# Altium footprint library PcbLib1.PcbLib: 41 footprints (part 2 of 3)
Each footprint in its own frame and in the unit in brackets; x right, y up, seen from the top. Pads: shape width x height; smd on the part's side, far side on the other; paste and mask are expansions set on the pad; w line width, h text height; cw(c..) or ccw(c..) is an arc to the next point about the centre after c.
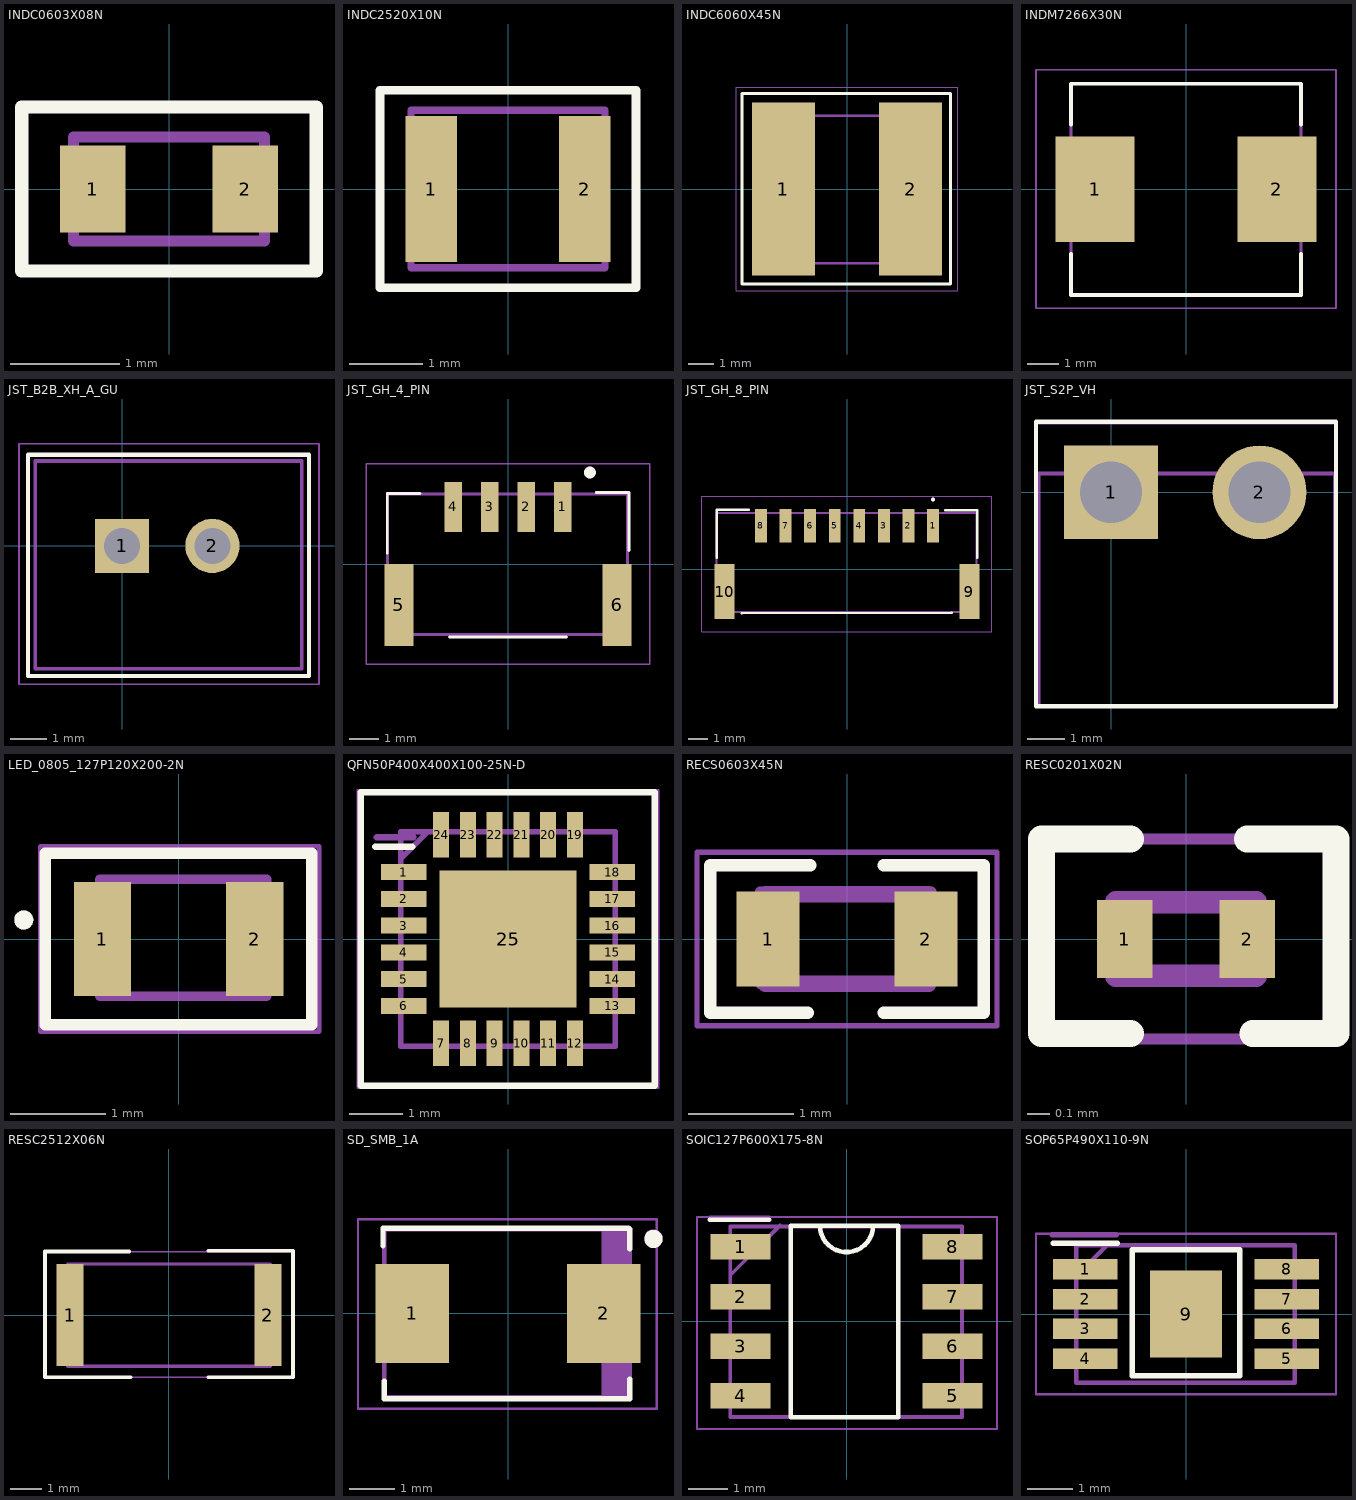
[diagram p1: the footprints below, top view; thin cyan lines are the x and y axes]

## INDC0603X08N [mm] "Chip Inductor, 2-Leads, Body 1.60x0.80mm, IPC Medium Density"
height 0.8
pads (2):
  rect 0.6x0.8 smd: 1(-0.7,0) 2(0.7,0)
Top Overlay:
  lines w0.12: -1.35,-0.75 -1.35,0.75 1.35,0.75 1.35,-0.75 -1.35,-0.75
Mechanical 7 (Mech7):
  lines w0.1: -0.875,-0.475 0.875,-0.475 0.875,0.475 -0.875,0.475 -0.875,-0.475
  text ".Designator" at -0.523,0.261 h1
  text "IN 1.6 mm x 0.8 mm (0603 imperial)" at -7.323,-1.764 h1
Mechanical 15:
  lines w0.05: -1.375,-0.775 1.375,-0.775 1.375,0.775 -1.375,0.775 -1.375,-0.775
3D body: height 0.8, standoff 0, extent 0.575,-0.475 0.875,0.475
3D body: height 0.8, standoff 0, extent -0.875,-0.475 -0.575,0.475
3D body: height 0.8, standoff 0, extent -0.575,-0.475 0.575,0.475

## INDC2520X10N [mm] "Chip Inductor, 2-Leads, Body 2.50x2.00mm, IPC Medium Density"
height 1
pads (2):
  rect 0.7x2 smd: 1(-1.05,0) 2(1.05,0)
Top Overlay:
  lines w0.12: -1.75,-1.35 -1.75,1.35 1.75,1.35 1.75,-1.35 -1.75,-1.35
Mechanical 7 (Mech7):
  lines w0.1: -1.325,-1.075 1.325,-1.075 1.325,1.075 -1.325,1.075 -1.325,-1.075
  text ".Designator" at -0.923,-0.239 h1
  text "IN 2.5 mm x 2.0 mm (2520 imperial)" at -8.248,-2.514 h1
Mechanical 15:
  lines w0.05: -1.775,-1.375 1.775,-1.375 1.775,1.375 -1.775,1.375 -1.775,-1.375
3D body: height 1, standoff 0, extent 0.825,-1.075 1.325,1.075
3D body: height 1, standoff 0, extent -1.325,-1.075 -0.825,1.075
3D body: height 1, standoff 0, extent -0.825,-1.075 0.825,1.075

## INDC6060X45N [mm] "Chip Inductor, 2-Leads, Body 6.00x6.00mm, IPC Medium Density"
height 4.5
pads (2):
  rect 2.51x6.92 smd: 1(-2.545,0) 2(2.545,0)
Top Overlay:
  lines w0.12: -4.2,-3.8 -4.2,3.825 4.15,3.825 4.15,-3.8 -4.2,-3.8
Mechanical 7 (Mech7):
  lines w0.1: -2.889,-2.975 -2.889,2.925 2.811,2.925 2.811,-2.975 -2.889,-2.975
  text "IN 6.0 mm x 6.0 mm (2424 imperial)" at -10.198,-5.114 h1
  text ".Designator" at -2.048,-1.039 h1
Mechanical 15:
  lines w0.05: -4.425,-4.075 -4.425,4.075 4.425,4.075 4.425,-4.075 -4.425,-4.075
3D body "10uH, 6x6 mm.step": height 2.8, standoff 0.01, extent -3.035,-3.025 2.985,2.975

## INDM7266X30N [mm] "Molded Inductor, 2-Leads, Body 7.20x6.60mm, IPC Medium Density"
height 3
pads (2):
  rect 2.55x3.4 smd: 1(-2.925,0) 2(2.925,0)
Top Overlay:
  lines w0.12: -3.7,-2.075 -3.7,-3.4 3.7,-3.4 3.7,-2.076 ; -3.7,2.075 -3.7,3.4 3.7,3.4 3.7,2.076
Mechanical 7 (Mech7):
  lines w0.1: -3.7,-3.4 3.7,-3.4 3.7,3.4 -3.7,3.4 -3.7,-3.4
  text "IN 7.2 mm x 6.6 mm" at -7.748,-5.023 h1
  text ".Designator" at -2.923,0.536 h1
Mechanical 15:
  lines w0.05: -4.825,-3.825 4.825,-3.825 4.825,3.85 -4.825,3.85 -4.825,-3.825
3D body: height 3, standoff 0, extent -3.7,-3.4 3.7,3.4

## JST_B2B_XH_A_GU [mm]
pads (2):
  rect 1.5x1.5 hole 1: 1(0,0)
  round 1.5 hole 1: 2(2.5,0)
Top Overlay:
  lines w0.12: -2.6,-3.6 -2.6,2.525 5.175,2.525 5.175,-3.6 -2.6,-3.6
Mechanical 7 (Mech7):
  lines w0.1: -2.4,-3.4 -2.4,2.35 4.975,2.35 4.975,-3.4 -2.4,-3.4
  text ".Designator" at -1.598,-1.564 h1
  text "JST B2B XH A GU" at -5.273,-5.098 h1
Mechanical 15:
  lines w0.05: -2.85,-3.825 -2.85,2.825 -1.025,2.825 4.95,2.825 5.45,2.825 5.45,-3.825 -2.35,-3.825 -2.85,-3.825
3D body "JST-B2B-XH-A.step": height 7.01, standoff -3.39, extent -2.4,-3.4 5,2.35

## JST_GH_4_PIN [mm]
pads (6):
  rect 0.6x1.7 smd: 1(1.875,1.95) 2(0.625,1.95) 3(-0.625,1.95) 4(-1.875,1.95)
  rect 1x2.8 smd: 5(-3.725,-1.4) 6(3.725,-1.4)
Top Overlay:
  circle w0.2: c2.8,3.125 r0.1
  lines w0.1: -4.125,0.381 -4.125,2.413 -3,2.413 ; -2,-2.5 2,-2.5 ; 3.015,2.447 4.14,2.447 4.14,0.457
Mechanical 7 (Mech7):
  circle w0.2: c2.79,3.129 r0.1
  lines w0.1: -4.115,-2.413 -4.115,2.388 4.089,2.388 4.089,-2.413 -4.115,-2.413
  text ".Designator" at -3.273,0.311 h1
  text "JST GH 4 PIN" at -5.348,-4.573 h1
Mechanical 15:
  lines w0.05: -4.85,-3.425 -4.85,3.425 4.85,3.425 4.85,-3.425 -4.85,-3.425
3D body "JST-GH-4PIN-BM04B-GHS-TBT(LF)(SN)(N).STEP": height 4.16, standoff 0.01, extent -4.15,-2.506 4.1,2.444

## JST_GH_8_PIN [mm]
pads (10):
  rect 0.6x1.7 smd: 1(4.375,2.225) 2(3.125,2.225) 3(1.875,2.225) 4(0.625,2.225) 5(-0.625,2.225) 6(-1.875,2.225) 7(-3.125,2.225) 8(-4.375,2.225)
  rect 1x2.8 smd: 9(6.225,-1.125) 10(-6.225,-1.125)
Top Overlay:
  lines w0.1: 4.375,3.5 cw(c4.375,3.55) 4.375,3.6 cw(c4.375,3.55) 4.375,3.5
  lines w0.12: -6.625,0.6 -6.625,3.025 -5,3.025 ; -5.35,-2.225 5.325,-2.2 ; 5,3 6.625,3 6.625,0.6
Mechanical 7 (Mech7):
  lines w0.1: -6.625,-2.175 6.575,-2.175 6.575,2.875 -6.625,2.875 -6.625,-2.175 ; 4.375,3.5 cw(c4.375,3.55) 4.375,3.6 cw(c4.375,3.55) 4.375,3.5
  text ".Designator" at -4.598,1.011 h1
  text "JST GH 8 PIN" at -5.923,-4.248 h1
Mechanical 15:
  lines w0.05: -7.375,-3.175 -7.375,3.725 7.35,3.725 7.35,-3.175 -7.375,-3.175
3D body "JST-GH-8PIN-BM08B-GHS-TBT (LF)(SN).STEP": height 4.21, standoff 0.01, extent -6.625,-2.125 6.625,2.825

## JST_S2P_VH [mm]
pads (2):
  rect 2.5x2.5 hole 1.65: 1(0,0)
  round 2.5 hole 1.65: 2(3.96,0)
Top Overlay:
  lines w0.12: -2,-5.7 -2,0 -2,1.875 6,1.875 6,-5.7 -2,-5.7
Mechanical 7 (Mech7):
  lines w0.1: -1.925,-5.7 5.975,-5.7 5.975,0.5 -1.925,0.5 -1.925,-5.7
  text "JST S2P VH 2 PIN" at -5.398,-7.548 h1
  text ".Designator" at -0.973,-3.789 h1
Mechanical 15:
  lines w0.05: -2,-5.675 -1.993,-5.682 6,-5.682 6,1.837 -2,1.837 -2,-5.675
3D body "JST-S2P-VH-2AW.STEP": height 8.11, standoff -3.61, extent -1.96,-11.255 5.96,0.5

## LED_0805_127P120X200-2N [mm] "Chip Array, Concave, 2-Leads, Pitch 1.27mm,  Body 1.20x2.00mm,  IPC Medium Density"
height 0.8
pads (2):
  rect 0.6x1.2 smd: 1(-0.8,0) 2(0.8,0)
Top Overlay:
  circle w0.1: c-1.625,0.2 r0.05
  lines w0.12: -1.4,-0.9 -1.4,0.9 -1.2,0.9 1.4,0.9 1.4,-0.9 -1.4,-0.9
Mechanical 7 (Mech7):
  circle w0.1: c-1.625,0.2 r0.05
  lines w0.1: -0.825,-0.6 -0.825,0.625 -0.4,0.625 0.925,0.625 0.925,-0.6 -0.825,-0.6
  text "LED 2.0 mm x 1.25 mm (0805 imperial)" at -10.323,-2.264 h1
  text ".Designator" at -0.473,0.111 h1
Mechanical 15:
  lines w0.05: -1.45,-0.975 -1.45,0.975 1.475,0.975 1.475,-0.975 -1.45,-0.975
3D body "LED-0805-1.step": height 1.1, standoff 0, extent -1.01,-0.625 1.01,0.625

## QFN50P400X400X100-25N-D [mm]
pads (25):
  rect 0.85x0.3 smd: 1(-1.95,1.25) 2(-1.95,0.75) 3(-1.95,0.25) 4(-1.95,-0.25) 5(-1.95,-0.75) 6(-1.95,-1.25) 13(1.95,-1.25) 14(1.95,-0.75) 15(1.95,-0.25) 16(1.95,0.25) 17(1.95,0.75) 18(1.95,1.25)
  rect 0.3x0.85 smd: 7(-1.25,-1.95) 8(-0.75,-1.95) 9(-0.25,-1.95) 10(0.25,-1.95) 11(0.75,-1.95) 12(1.25,-1.95) 19(1.25,1.95) 20(0.75,1.95) 21(0.25,1.95) 22(-0.25,1.95) 23(-0.75,1.95) 24(-1.25,1.95)
  rect 2.55x2.55 smd: 25(0,0)
Top Overlay:
  lines w0.12: -2.475,1.725 -1.789,1.725 ; -2.75,-2.743 2.743,-2.743 2.743,2.743 -1.196,2.743 -2.75,2.743 -2.75,-2.743
Mechanical 7 (Mech7):
  lines w0.1: -2,1.5 -1.5,2 ; -2,-2 2,-2 2,2 -2,2 -2,-2
  lines w0.12: -2.45,1.9 -1.764,1.9
  text "VQFN 4 mm x 4 mm 24 pin" at -7.948,-4.164 h1
  text ".Designator" at -1.598,0.511 h1
Mechanical 15:
  lines w0.05: -2.8,-2.775 2.8,-2.775 2.8,2.775 -2.8,2.775 -2.8,-2.775
3D body "TPS65131RGER.stp": height 1, standoff 0, extent -2,-2 2,2

## RECS0603X45N [mm]
pads (2):
  rect 0.6x0.9 smd: 1(-0.75,0) 2(0.75,0)
Top Overlay:
  lines w0.12: -0.375,-0.7 -1.3,-0.7 -1.3,0.7 -0.35,0.7 ; 0.35,-0.7 1.3,-0.7 1.3,0.7 0.35,0.7
Mechanical 7:
  lines w0.152: -0.775,-0.425 -0.775,0.425 0.775,0.425 0.775,-0.425 -0.775,-0.425
Mechanical 7 (Mech7):
  lines w0.1: -0.825,-0.425 0.8,-0.425 0.8,0.45 -0.35,0.45 -0.825,0.45 -0.825,-0.425
  text ".Designator" at -0.448,0.286 h1
  text "REC 1.6 mm x 0.8 mm (0603 imperial)" at -10.173,-1.764 h1
Mechanical 15:
  lines w0.05: -1.425,-0.825 -1.425,0.825 1.425,0.825 1.425,-0.825 -1.425,-0.825
3D body "RT0603BRD074K7L  4.7k.step": height 0.56, standoff 0.01, extent -0.85,-0.443 0.85,0.457

## RESC0201X02N [mm] "Chip Resistor, 2-Leads, Body 0.60x0.30mm, IPC Medium Density"
height 0.23
pads (2):
  rect 0.25x0.35 smd: 1(-0.275,0) 2(0.275,0)
Top Overlay:
  lines w0.12: -0.25,-0.425 -0.65,-0.425 -0.65,0.45 -0.25,0.45 ; 0.275,0.45 0.675,0.45 0.675,-0.425 0.3,-0.425
Mechanical 7 (Mech7):
  lines w0.1: -0.315,-0.165 0.315,-0.165 0.315,0.165 -0.315,0.165 -0.315,-0.165
  text ".Designator" at -1.073,0.436 h1
  text "REC 0.6 mm x 0.3 mm (0201 imperial)" at -7.498,-1.439 h1
Mechanical 15:
  lines w0.05: -0.675,-0.45 0.675,-0.45 0.675,0.45 -0.675,0.45 -0.675,-0.45
3D body: height 0.23, standoff 0, extent 0.165,-0.165 0.315,0.165
3D body: height 0.23, standoff 0, extent -0.315,-0.165 -0.165,0.165
3D body: height 0.23, standoff 0, extent -0.165,-0.165 0.165,0.165

## RESC2512X06N [mm] "Chip Resistor, 2-Leads, Body 6.35x3.10mm, IPC Medium Density"
height 0.55
pads (2):
  rect 0.85x3.25 smd: 1(-3.15,0) 2(3.15,0)
Top Overlay:
  lines w0.12: -1.275,2.025 -3.95,2.025 -3.95,-1.975 -1.225,-1.975 ; 1.25,-1.975 3.95,-1.975 3.95,2.05 1.25,2.05
Mechanical 7 (Mech7):
  lines w0.1: -3.225,-1.625 3.225,-1.625 3.225,1.625 -3.225,1.625 -3.225,-1.625
  text "REC 6.35 mm x 3.20 mm (2512 imperial)" at -9.923,-3.364 h1
  text ".Designator" at -2.448,-0.389 h1
Mechanical 15:
  lines w0.05: -3.95,-1.975 3.95,-1.975 3.95,2.025 -3.95,2.025 -3.95,-1.975
3D body: height 0.55, standoff 0, extent 2.625,-1.625 3.225,1.625
3D body: height 0.55, standoff 0, extent -3.225,-1.625 -2.625,1.625
3D body: height 0.55, standoff 0, extent -2.625,-1.625 2.625,1.625

## SD_SMB_1A [mm] "Molded Diode, 2-Leads, Body 4.32x3.63mm, IPC Medium Density"
height 2.45
pads (2):
  rect 1.62x2.18 smd: 1(-2.11,0) 2(2.11,0)
Top Overlay:
  circle w0.2: c3.2,1.64 r0.1
  lines w0.12: -2.75,1.49 -2.75,1.875 2.3,1.875 2.65,1.875 2.675,1.85 2.675,1.425 ; -2.725,-1.49 -2.725,-1.875 2.3,-1.875 2.675,-1.875 2.675,-1.45
Mechanical 7 (Mech7):
  circle w0.2: c3.2,1.65 r0.1
  rectangle: 2.056,-1.85 2.675,1.85
  lines w0.1: -2.725,-1.85 -2.725,1.85 2.675,1.85 2.675,-1.85 -2.725,-1.85
  text "SD SMB 1A" at -3.923,-3.773 h1
  text ".Designator" at -1.548,-0.589 h1
Mechanical 15:
  lines w0.05: -3.3,-2.1 -3.3,2.075 3.275,2.075 3.275,-2.1 -3.3,-2.1
3D body "STPS160U.STEP": height 2.66, standoff 0.01, extent -2.675,-1.813 2.675,1.813

## SOIC127P600X175-8N [mm]
pads (8):
  rect 1.525x0.65 smd: 1(-2.712,1.905) 2(-2.712,0.635) 3(-2.712,-0.635) 4(-2.712,-1.905) 5(2.712,-1.905) 6(2.712,-0.635) 7(2.712,0.635) 8(2.712,1.905)
Top Overlay:
  lines w0.12: -3.5,2.6 -1.975,2.6 ; -0.679,2.45 ccw(c0,2.45) 0.679,2.45 ; -1.425,-2.45 1.325,-2.45 1.325,2.45 -1.425,2.45 -1.425,-2.45
Mechanical 7 (Mech7):
  lines w0.1: -2.975,1.18 -1.705,2.45 ; -2.975,-2.45 2.95,-2.45 2.95,2.425 -2.975,2.425 -2.975,-2.45
  lines w0.12: -3.5,2.65 -1.975,2.65
  text ".Designator" at -1.698,1.086 h1
  text "SOIC  3.9 mm x 4.9 mm 8 pin" at -9.998,-4.089 h1
Mechanical 15:
  lines w0.05: -3.825,-2.75 3.85,-2.75 3.85,2.675 -3.825,2.675 -3.825,-2.75
3D body "NE555DR.stp": height 1.75, standoff 0, extent -3,-2.45 3,2.45

## SOP65P490X110-9N [mm]
pads (9):
  rect 1.4x0.45 smd: 1(-2.2,0.975) 2(-2.2,0.325) 3(-2.2,-0.325) 4(-2.2,-0.975) 5(2.2,-0.975) 6(2.2,-0.325) 7(2.2,0.325) 8(2.2,0.975)
  rect 1.57x1.89 smd: 9(0,0)
Top Overlay:
  lines w0.12: -2.9,1.55 -1.5,1.55 ; -1.175,-1.35 1.175,-1.35 1.175,1.4 -1.175,1.4 -1.175,-1.35
Mechanical 7 (Mech7):
  lines w0.1: -2.375,0.85 -1.725,1.5 ; -2.4,-1.5 -2.4,1.5 2.375,1.5 2.375,-1.5 -2.4,-1.5
  lines w0.12: -2.925,1.725 -1.525,1.725
  text "HVSSOP 3 mm x 3 mm 9 pin" at -9.648,-3.014 h1
  text ".Designator" at -1.548,0.486 h1
Mechanical 15:
  lines w0.05: -3.275,-1.75 -3.275,1.75 3.275,1.75 3.275,-1.75 -3.275,-1.75
3D body "TPS7A4901DGNR.stp": height 1.07, standoff 0, extent -2.45,-1.5 2.45,1.5